# Altium integrated library LM386N-4_NOPB.IntLib: 1 symbol
Pins are listed as number, name and electrical type; pins without a type are passive.

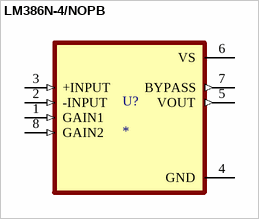
[diagram p0: symbol LM386N-4/NOPB]

## LM386N-4/NOPB
designator U?
MP: LM386N-4/NOPB; Value: *; Package: None; Availability: Unavailable; Price: None
footprint DIP794W45P254L959H508Q8
pins: 1 GAIN1 (in), 2 -INPUT (in), 3 +INPUT (in), 4 GND (power), 5 VOUT (out), 6 VS (power), 7 BYPASS (out), 8 GAIN2 (in)